# Altium footprint library MQ4.PcbLib: 1 footprints
Each footprint in its own frame and in the unit in brackets; x right, y up, seen from the top. Pads: shape width x height; smd on the part's side, far side on the other; paste and mask are expansions set on the pad; w line width, h text height; cw(c..) or ccw(c..) is an arc to the next point about the centre after c.
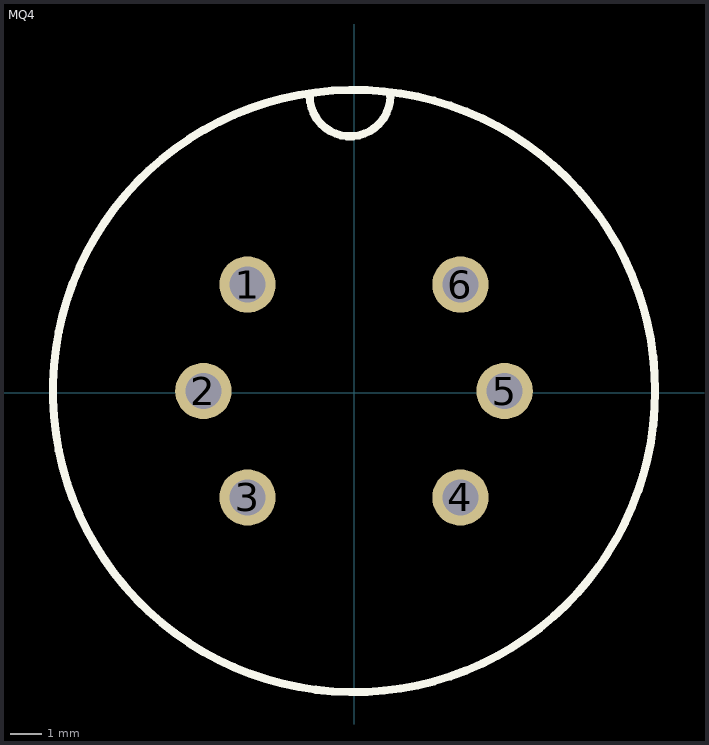
[diagram p0: the footprint, top view; thin cyan lines are the x and y axes]

## MQ4 [mil]
pads (6):
  round 70 hole 45: 1(-132.66,134.32) 2(-187.43,2.08) 3(-132.66,-130.15) 4(131.81,-130.15) 5(186.59,2.08) 6(131.81,134.32)
Top Overlay:
  circle w10: c-0.41,2.08 r374.02
  lines w10: -55.36,368.36 ccw(c-5.36,368.36) 44.64,368.36